# Altium integrated library AP7331-28WG-7.IntLib: 1 symbol
Pins are listed as number, name and electrical type; pins without a type are passive.

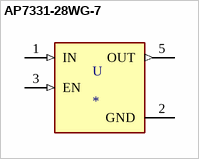
[diagram p0: symbol AP7331-28WG-7]

## AP7331-28WG-7
designator U
Linear Voltage Regulator IC 1 Output 300mA SOT-25; MF: Diodes Inc.; MP: AP7331-28WG-7; Price: None; Package: SOT-753 Diodes Inc.; Value: *; Availability: Unavailable; SnapEDA_Link: https://www.snapeda.com/parts/AP7331-28WG-7/Diodes%20Inc./view-part/622293/?ref=snap
footprint SOT95P285X145-5N
pins: 1 IN (in), 2 GND (power), 3 EN (in), 5 OUT (out)